# Altium integrated library 2512 footprint.IntLib: 2 symbols
Pins are listed as number, name and electrical type; pins without a type are passive.

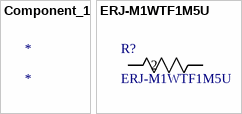
[diagram p0: symbols Component_1 to ERJ-M1WTF1M5U]

## Component_1
designator *

## ERJ-M1WTF1M5U
designator R?
No Description Available; Vendor: Panasonic; Built_By: EMA_UL_Team; SourceLibrary: Panasonic_2010-01-01_Res7; Manufacturer_Part_Number: ERJ-M1WTF1M5U; Copyright: Copyright (C) 2018 Accelerated Designs. All rights reserved; RefDes: RefDes; Type: DEV
footprint RC2512N_PAN
pins: 1, 2